# EAGLE library part EDGE_CONNECTOR_20POS_CONTACTS (library thanics_robotics)
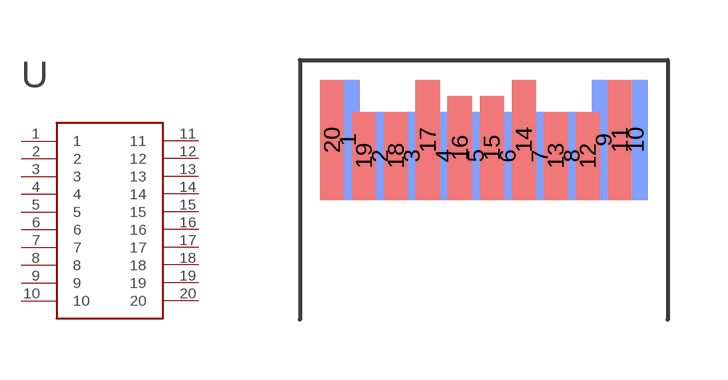
[diagram p31: symbol with the pads of EDGE_CONNECTOR_20POS_CONTACTS; footprint EDGE_CONNECTOR_20POS_CONTACTS]

Designator prefix -

## EDGE_CONNECTOR_20POS_CONTACTS  [EDGE_CONNECTOR_20POS_CONTACTS]
1  1
2  2
3  3
4  4
5  5
6  6
7  7
8  8
9  9
10  10
11  11
12  12
13  13
14  14
15  15
16  16
17  17
18  18
19  19
20  20

## Footprint EDGE_CONNECTOR_20POS_CONTACTS (pad centres in mm)
smd 0.6 x 3 bottom: 1 -3.4,0; 9 3,0; 10 3.8,0
smd 0.6 x 2.2 bottom: 2 -2.6,-0.4; 3 -1.8,-0.4; 4 -1,-0.4; 5 -0.2,-0.4; 6 0.6,-0.4; 7 1.4,-0.4; 8 2.2,-0.4
smd 0.6 x 3: 11 3.4,0; 14 1,0; 17 -1.4,0; 20 -3.8,0
smd 0.6 x 2.2: 12 2.6,-0.4; 13 1.8,-0.4; 18 -2.2,-0.4; 19 -3,-0.4
smd 0.6 x 2.6: 15 0.2,-0.2; 16 -0.6,-0.2